# EAGLE library part 87914-1016 (library 87914-1016)
2.54mm Pitch C-Grid Header, Through Hole, Dual Row, Vertical, 10 Circuits, 2.50m Tin (Sn) Overall Plating, Tray Packaging, Lead-Free Source: Datasheet <https://www.molex.com/content/dam/molex/molex-dot-com/products/automated/en-us/salesdrawingpdf/879/87914/879141016_sd.pdf>
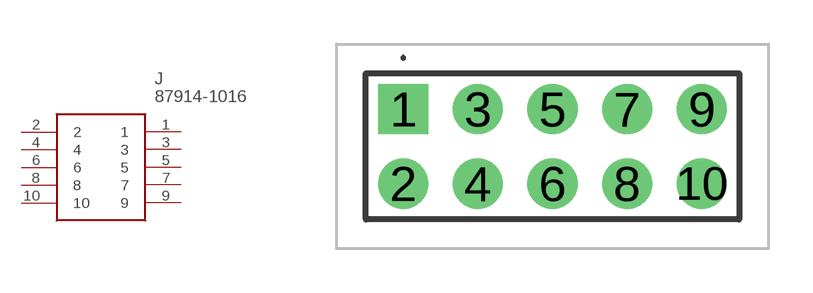
[diagram p0: symbol with the pads of 879141016; footprint 879141016]

Designator prefix J

## 87914-1016 (Description: 2.54mm Pitch C-Grid Header, Through Hole, Dual Row, Vertical, 10 Circuits, 2.50m Tin (Sn) Overall Plating, Tray Packaging, Lead-Free; Height: 8.33mm; Manufacturer_Name: Molex; Manufacturer_Part_Number: 87914-1016; Mouser_Part_Number: 538-87914-1016; Mouser_Price-Stock: https://www.mouser.co.uk/ProductDetail/Molex/87914-1016?qs=kNSQ05%252BLZoC4mX3noaPXJg%3D%3D)  [879141016]
1  1
2  2
3  3
4  4
5  5
6  6
7  7
8  8
9  9
10  10

## Footprint 879141016 (pad centres in mm)
87914-1016-2
drill 1.14 pad 1.71 square: 1 0,0
drill 1.14 pad 1.71: 2 0,-2.54; 3 2.54,0; 4 2.54,-2.54; 5 5.08,0; 6 5.08,-2.54; 7 7.62,0; 8 7.62,-2.54; 9 10.16,0; 10 10.16,-2.54